# Altium schematic symbol library bt_diode.SCHLIB: 27 symbols
Pins are listed as number, name and electrical type; pins without a type are passive.

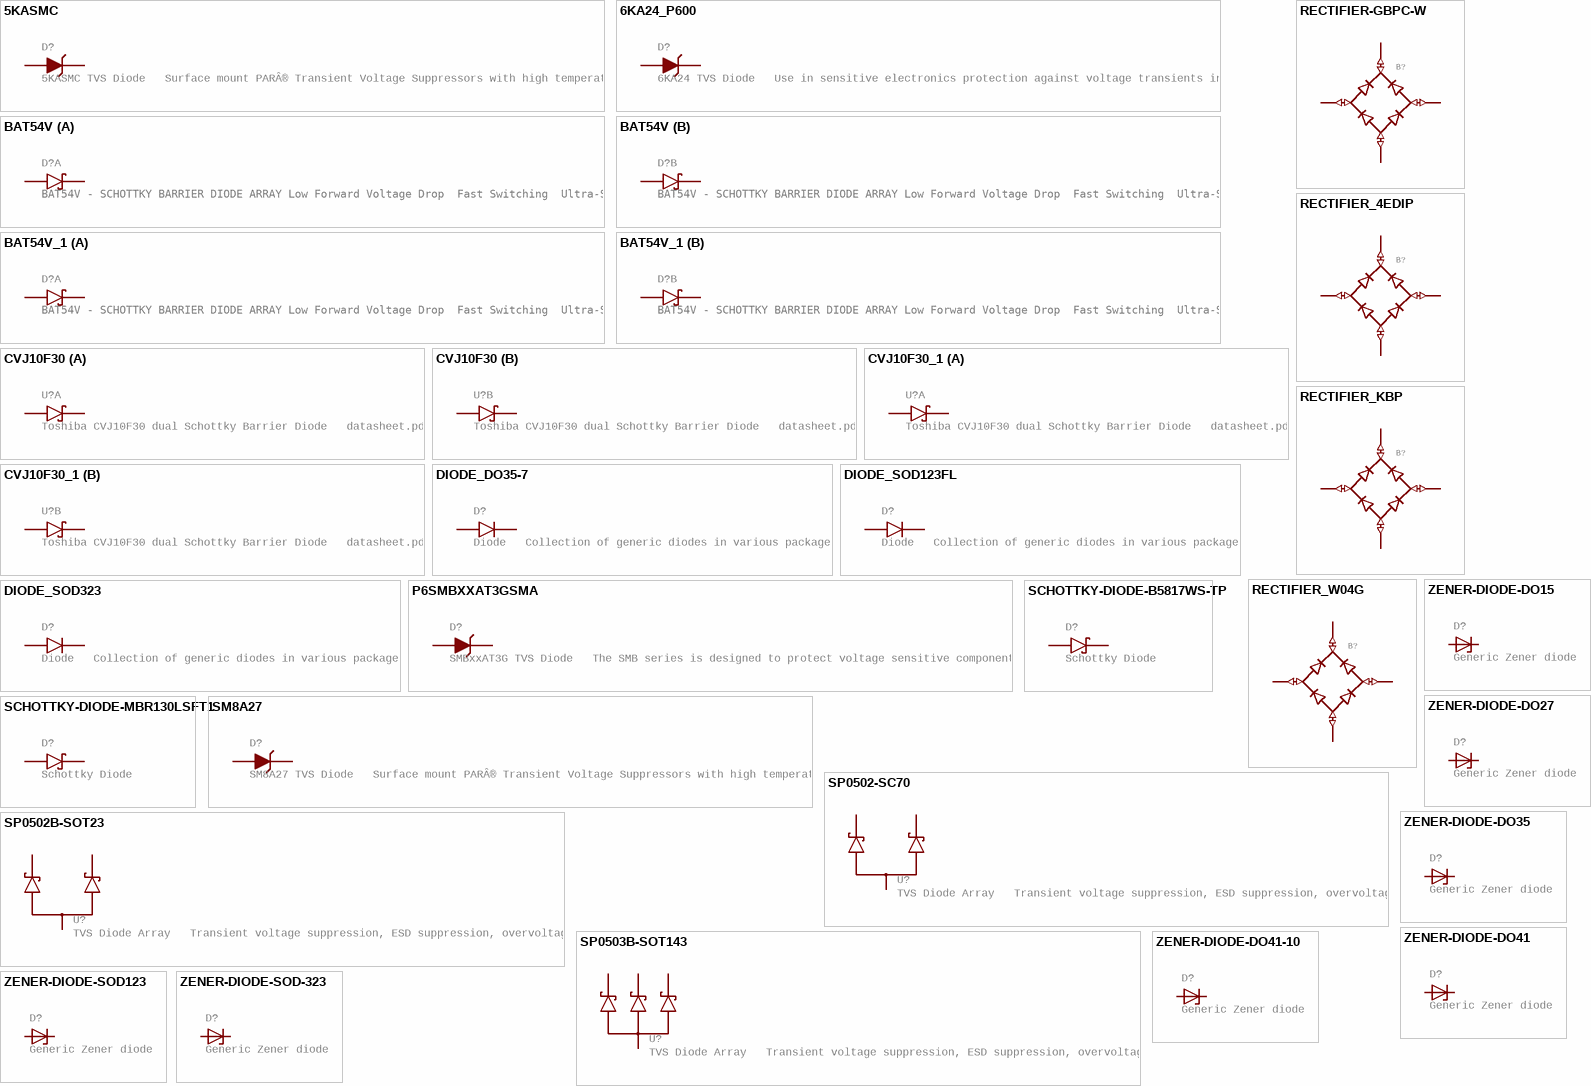
[diagram p0: symbols 5KASMC to ZENER-DIODE-SOD-323]

## 5KASMC
designator D?, comment 5KASMC TVS Diode   Surface mount PARÂ® Transient Voltage Suppressors with high temperature stability and high reliability conditions. Junction passivation optimized design passivated anisotropic rectifier technology. TJ = 185 Â°C capability suitable for high reliability and automotive requirement. AEC-Q101 qualified. PPPM=5000W   Vishay General Semiconductor   datasheet.pdf
GateName_1: D1; DeviceName: SMC; DeviceSetName: 5KA; SymbolName_1: TVS; LibraryName: bt_diode; Package: DO-214AB
footprint DO-214AB
pins: A, C

## 6KA24_P600
designator D?, comment 6KA24 TVS Diode   Use in sensitive electronics protection against voltage transients induced by inductive load switching and lighting, especially for automotive load dump protection application.   PARÂ® Transient Voltage Suppressors with high temperature stability and high reliability conditions. Junction passivation optimized design passivated anisotropic rectifier technology. TJ = 185 Â°C capability suitable for high reliability and automotive requirement. AEC-Q101 qualified. VWM = 24V  PPPM = 6000W  VC = 40V (45V @ 125C)  IPP = 90A       Vishay General Semiconductor   datasheet.pdf
GateName_1: D1; DeviceName: _P600; SymbolName_1: TVS; LibraryName: bt_diode; DeviceSetName: 6KA24; Package: P600
footprint P600
pins: A, C

## BAT54V
designator D?, comment BAT54V - SCHOTTKY BARRIER DIODE ARRAY Low Forward Voltage Drop  Fast Switching  Ultra-Small Surface Mount Package  PN Junction Guard Ring for Transient and ESD Protection  Totally Lead-Free & Fully RoHS Compliant (Notes 1 & 2)  Halogen and Antimony Free. "Greenâ€ Device (Note 3)       datasheet.pdf   VRRM = VRWM = VR = 30V    IF = 200mA    IFRM = 300mA    IFSM = 600mA (@ t < 1.0s)    PD = 150mW
GateName_1: G$1; GateName_2: G$2; SymbolName_1: SCHOTTKY; SymbolName_2: SCHOTTKY; LibraryName: bt_diode; DeviceSetName: BAT54V; Package: SOT-563
footprint SOT-563
part A pins: 1 A, 6 C
part B pins: 3 A, 4 C

## BAT54V_1
designator D?, comment BAT54V - SCHOTTKY BARRIER DIODE ARRAY Low Forward Voltage Drop  Fast Switching  Ultra-Small Surface Mount Package  PN Junction Guard Ring for Transient and ESD Protection  Totally Lead-Free & Fully RoHS Compliant (Notes 1 & 2)  Halogen and Antimony Free. "Greenâ€ Device (Note 3)       datasheet.pdf   VRRM = VRWM = VR = 30V    IF = 200mA    IFRM = 300mA    IFSM = 600mA (@ t < 1.0s)    PD = 150mW
GateName_1: G$1; GateName_2: G$2; SymbolName_1: SCHOTTKY; SymbolName_2: SCHOTTKY; LibraryName: bt_diode; DeviceSetName: BAT54V; Package: SOT-563
footprint SOT-563
part A pins: 1 A, 6 C
part B pins: 3 A, 4 C

## CVJ10F30
designator U?, comment Toshiba CVJ10F30 dual Schottky Barrier Diode   datasheet.pdf
GateName_1: D1; GateName_2: D2; SymbolName_1: SCHOTTKY; SymbolName_2: SCHOTTKY; LibraryName: bt_diode; DeviceSetName: CVJ10F30; Package: 6SMD-5
footprint 6SMD-5
part A pins: P$1 A, P$5 C
part B pins: P$3 A, P$4 C

## CVJ10F30_1
designator U?, comment Toshiba CVJ10F30 dual Schottky Barrier Diode   datasheet.pdf
GateName_1: D1; GateName_2: D2; SymbolName_1: SCHOTTKY; SymbolName_2: SCHOTTKY; LibraryName: bt_diode; DeviceSetName: CVJ10F30; Package: 6SMD-5
footprint 6SMD-5
part A pins: P$1 A, P$5 C
part B pins: P$3 A, P$4 C

## DIODE_DO35-7
designator D?, comment Diode   Collection of generic diodes in various packages
GateName_1: D1; DeviceName: _DO35-7; SymbolName_1: DIODE; LibraryName: bt_diode; DeviceSetName: DIODE; Package: DO35-7
footprint DO35-7
pins: A, C

## DIODE_SOD123FL
designator D?, comment Diode   Collection of generic diodes in various packages
GateName_1: D1; DeviceName: _SOD123FL; SymbolName_1: DIODE; LibraryName: bt_diode; DeviceSetName: DIODE; Package: SOD123FL
footprint SOD123FL
pins: A, C

## DIODE_SOD323
designator D?, comment Diode   Collection of generic diodes in various packages
GateName_1: D1; DeviceName: _SOD323; SymbolName_1: DIODE; LibraryName: bt_diode; DeviceSetName: DIODE; Package: SOD-323
footprint SOD-323
pins: A, C

## P6SMBXXAT3GSMA
designator D?, comment SMBxxAT3G TVS Diode   The SMB series is designed to protect voltage sensitive components from high voltage, high energy transients. They have excellent clamping capability, high surge capability, low zener impedance and fast response time. The SMB series is supplied in ON Semiconductorâ€™s exclusive, cost-effective, highly reliable SURMETICÂ® package and is ideally suited for use in communication systems, automotive, numerical controls, process controls, medical equipment, business machines, power supplies and many other industrial/consumer applications.      http://www.onsemi.com/pub_link/Collateral/P6SMB6.8AT3-D.PDF
GateName_1: G$1; DeviceName: SMA; DeviceSetName: P6SMBXXAT3G; SymbolName_1: TVS; LibraryName: bt_diode; Package: DO-214AA
footprint DO-214AA
pins: P$1 C, P$2 A

## RECTIFIER-GBPC-W
designator B?, comment Bridge Rectifier   Standard diode bridge rectifier, common footprints  (value not drawn)
GateName_1: B1; DeviceName: -GBPC-W; SymbolName_1: RECTIFIER; LibraryName: bt_diode; DeviceSetName: RECTIFIER; Package: GBPC-W
footprint GBPC-W
pins: AC1 (io), AC2 (io), V+ + (io), V- - (io)

## RECTIFIER_4EDIP
designator B?, comment Bridge Rectifier   Standard diode bridge rectifier, common footprints  (value not drawn)
GateName_1: B1; DeviceName: _4EDIP; SymbolName_1: RECTIFIER; LibraryName: bt_diode; DeviceSetName: RECTIFIER; Package: 4EDIP
footprint 4EDIP
pins: + (io), - (io), AC1 (io), AC2 (io)

## RECTIFIER_KBP
designator B?, comment Bridge Rectifier   Standard diode bridge rectifier, common footprints  (value not drawn)
GateName_1: B1; DeviceName: _KBP; SymbolName_1: RECTIFIER; LibraryName: bt_diode; DeviceSetName: RECTIFIER; Package: KBP
footprint KBP
pins: AC1 (io), AC2 (io), V+ + (io), V- - (io)

## RECTIFIER_W04G
designator B?, comment Bridge Rectifier   Standard diode bridge rectifier, common footprints  (value not drawn)
GateName_1: B1; DeviceName: _W04G; SymbolName_1: RECTIFIER; LibraryName: bt_diode; DeviceSetName: RECTIFIER; Package: W04G
footprint W04G
pins: + (io), - (io), AC1 (io), AC2 (io)

## SCHOTTKY-DIODE-B5817WS-TP
designator D?, comment Schottky Diode
GateName_1: 1; DeviceName: -B5817WS-TP; DeviceSetName: SCHOTTKY-DIODE; SymbolName_1: SCHOTTKY; LibraryName: bt_diode; Package: SOD-323
footprint SOD-323
pins: A, C

## SCHOTTKY-DIODE-MBR130LSFT1
designator D?, comment Schottky Diode
GateName_1: 1; DeviceName: -MBR130LSFT1; DeviceSetName: SCHOTTKY-DIODE; SymbolName_1: SCHOTTKY; LibraryName: bt_diode; Package: SOD123FL
footprint SOD123FL
pins: A, C

## SM8A27
designator D?, comment SM8A27 TVS Diode   Surface mount PARÂ® Transient Voltage Suppressors with high temperature stability and high reliability conditions. Junction passivation optimized design passivated anisotropic rectifier technology. TJ = 185 Â°C capability suitable for high reliability and automotive requirement. AEC-Q101 qualified. VWM = 22V  VBR = 24V  PPPM = 6600W  VC = 40V  IPP = 55A (8/20Âµs)       Vishay General Semiconductor   datasheet.pdf
GateName_1: D1; SymbolName_1: TVS; LibraryName: bt_diode; DeviceSetName: SM8A27; Package: DO-218AB
footprint DO-218AB
pins: A, C

## SP0502-SC70
designator U?, comment TVS Diode Array   Transient voltage suppression, ESD suppression, overvoltage.
GateName_1: U1; SymbolName_1: DUAL_ZENER; DeviceName: -SC70; DeviceSetName: SP0502; LibraryName: bt_diode; Package: SC70/SOT232
footprint SC70/SOT232
pins: 1 C1, 2 C2, 3 A

## SP0502B-SOT23
designator U?, comment TVS Diode Array   Transient voltage suppression, ESD suppression, overvoltage.
GateName_1: U1; SymbolName_1: DUAL_ZENER; DeviceName: B-SOT23; DeviceSetName: SP0502; LibraryName: bt_diode; Package: SOT23
footprint SOT23
pins: 1 C1, 2 C2, 3 A

## SP0503B-SOT143
designator U?, comment TVS Diode Array   Transient voltage suppression, ESD suppression, overvoltage.
GateName_1: U1; SymbolName_1: 3_ZENER; DeviceName: B-SOT143; DeviceSetName: SP0503; LibraryName: bt_diode; Package: SOT143
footprint SOT143
pins: P$1 A, P$2 C1, P$3 C2, P$4 C3

## ZENER-DIODE-DO15
designator D?, comment Generic Zener diode
GateName_1: D1; DeviceName: -DO15; DeviceSetName: ZENER-DIODE; SymbolName_1: ZENER; LibraryName: bt_diode; Package: DO15Z12
footprint DO15Z12
pins: A, C

## ZENER-DIODE-DO27
designator D?, comment Generic Zener diode
GateName_1: D1; DeviceName: -DO27; DeviceSetName: ZENER-DIODE; SymbolName_1: ZENER; LibraryName: bt_diode; Package: DO27Z15
footprint DO27Z15
pins: A, C

## ZENER-DIODE-DO35
designator D?, comment Generic Zener diode
GateName_1: D1; DeviceName: -DO35; DeviceSetName: ZENER-DIODE; SymbolName_1: ZENER; LibraryName: bt_diode; Package: DO35Z7
footprint DO35Z7
pins: A, C

## ZENER-DIODE-DO41
designator D?, comment Generic Zener diode
GateName_1: D1; DeviceName: -DO41; DeviceSetName: ZENER-DIODE; SymbolName_1: ZENER; LibraryName: bt_diode; Package: DO41Z7
footprint DO41Z7
pins: A, C

## ZENER-DIODE-DO41-10
designator D?, comment Generic Zener diode
GateName_1: D1; DeviceName: -DO41-10; DeviceSetName: ZENER-DIODE; SymbolName_1: ZENER; LibraryName: bt_diode; Package: DO41Z10
footprint DO41Z10
pins: A, C

## ZENER-DIODE-SOD123
designator D?, comment Generic Zener diode
GateName_1: D1; DeviceName: -SOD123; DeviceSetName: ZENER-DIODE; SymbolName_1: ZENER; LibraryName: bt_diode; Package: SOD123FL
footprint SOD123FL
pins: A, C

## ZENER-DIODE-SOD-323
designator D?, comment Generic Zener diode
GateName_1: D1; DeviceName: -SOD-323; DeviceSetName: ZENER-DIODE; SymbolName_1: ZENER; LibraryName: bt_diode; Package: SOD-323
footprint SOD-323
pins: A, C